# Altium integrated library PC817_smd.IntLib: 1 symbol
Pins are listed as number, name and electrical type; pins without a type are passive.

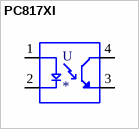
[diagram p0: symbol PC817XI]

## PC817XI
designator U
Optoisolator Transistor Output 5000Vrms 1 Channel 4-SMD; MP: PC817XI; MF: Sharp Microelectronics; Price: None; Package: SMD-4 Sharp; Value: *; Availability: Unavailable; SnapEDA_Link: https://www.snapeda.com/parts/PC817XI/Sharp%20Microelectronics/view-part/494182/?ref=snap
footprint SOIC254P975X460-4N
pins: 1 A, 2 C, 3 ET, 4 CT